# Altium integrated library Analog Devices Switches and Multiplexers Analog Switches.IntLib: 575 symbols (part 1 of 23)
Pins are listed as number, name and electrical type; pins without a type are passive.

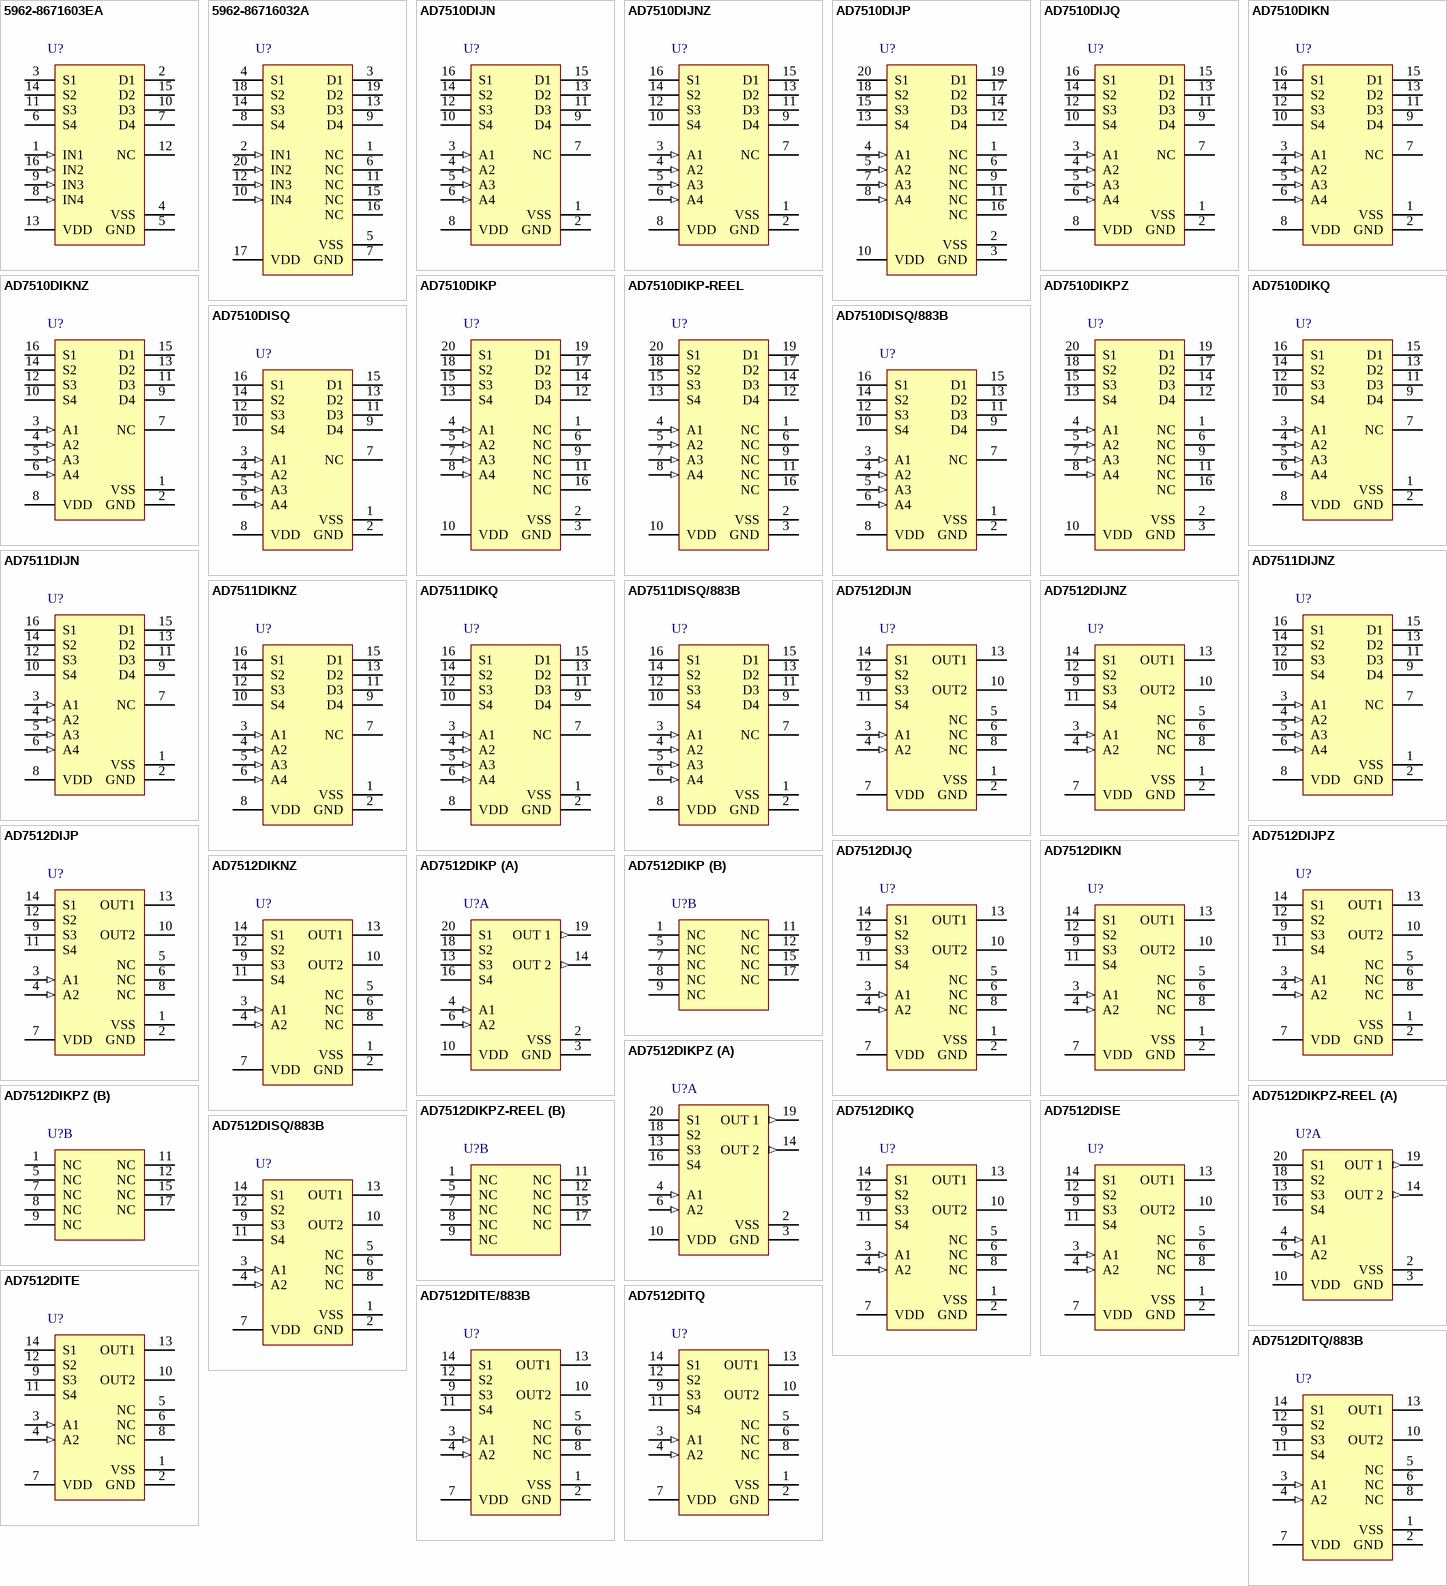
[diagram p0: symbols 5962-8671603EA to AD7512DITQ/883B]

## 5962-8671603EA
designator U?
LC2MOS High Speed, Quad SPST Switches, 30 Ohm Ron, 20-pin LCC (E-20A), Tube; Manufacturer: Analog Devices; PartNumber: 5962-8671603EA; # Sw Functions: 4; Max Neg Supply: -16.5V; Max Pos Supply: +16.5V; Ron (ohms): 30, 65; DatasheetVersion: Rev. B; PackageVersion: Aug-05; PackageReference: Q-16; PackageDescription: 16-Pin Ceramic Dual In-Line Package, Row spacing 7.62 mm, Pitch 2.54 mm; Supplier 1: Mouser; Supplier Part Number 1: N/A; Configuration: SPST; Packing: Tube; Mounting Technology: Through Hole; ComponentLink1Description: Manufacturer URL; ComponentLink1URL: http://www.analog.com/en/index.html; ComponentLink2Description: Datasheet; ComponentLink2URL: http://www.analog.com/static/imported-files/data_sheets/ADG201HS.pdf; ComponentLink3Description: Package Specification; ComponentLink3URL: http://www.analog.com/static/imported-files/packages/54083157002221Q_16.pdf
footprint ADI-Q-16 (DIP, 16-Leads, Body 21.34x6.73mm, Pitch 2.54mm)
pins: 1 IN1 (in), 2 D1, 3 S1, 4 VSS (power), 5 GND (power), 6 S4, 7 D4, 8 IN4 (in), 9 IN3 (in), 10 D3, 11 S3, 12 NC, 13 VDD (power), 14 S2, 15 D2, 16 IN2 (in)

## 5962-86716032A
designator U?
LC2MOS High Speed, Quad SPST Switches, 30 Ohm Ron, 16-pin DIP (Q-16), Tube; Manufacturer: Analog Devices; PartNumber: 5962-86716032A; # Sw Functions: 4; Max Neg Supply: -16.5V; Max Pos Supply: +16.5V; Ron (ohms): 30, 65; DatasheetVersion: Rev. B; PackageVersion: Rev. C, 08/2002; PackageReference: E-20A; PackageDescription: 20-Pin Terminal Ceramic Leadless Chip Carrier, Body 8.89 x 8.89 mm, Pitch 1.27 mm; Supplier 1: Mouser; Supplier Part Number 1: N/A; Configuration: SPST; Packing: Tube; Mounting Technology: Surface Mount; ComponentLink1Description: Manufacturer URL; ComponentLink1URL: http://www.analog.com/en/index.html; ComponentLink2Description: Datasheet; ComponentLink2URL: http://www.analog.com/static/imported-files/data_sheets/ADG201HS.pdf; ComponentLink3Description: Package Specification; ComponentLink3URL: http://www.analog.com/static/imported-files/data_sheets/AD827.pdf
footprint ADI-E-20A_N (LCC, 20-Leads, Body 8.9x8.9mm, Pitch 1.27mm, IPC Medium Density)
footprint ADI-E-20A_L (LCC, 20-Leads, Body 8.9x8.9mm, Pitch 1.27mm, IPC High Density)
footprint ADI-E-20A_M (LCC, 20-Leads, Body 8.9x8.9mm, Pitch 1.27mm, IPC Low Density)
pins: 1 NC, 2 IN1 (in), 3 D1, 4 S1, 5 VSS (power), 6 NC, 7 GND (power), 8 S4, 9 D4, 10 IN4 (in), 11 NC, 12 IN3 (in), 13 D3, 14 S3, 15 NC, 16 NC, 17 VDD (power), 18 S2, 19 D2, 20 IN2 (in)

## AD7510DIJN
designator U?
Dual (+/-15 V), DI CMOS Protected Analog Switches, 75 Ohm Ron, 16-pin DIP (N-16), Tube; Manufacturer: Analog Devices; PartNumber: AD7510DIJN; # Sw Functions: 4; Configuration: SPST; DatasheetVersion: Rev. A; PackageVersion: 070706-A, 07/2006; PackageReference: N-16; PackageDescription: 16-Pin Plastic Dual In-Line Package, Row spacing 7.62 mm, Pitch 2.54 mm; Supplier 1: Mouser; Supplier Part Number 1: 584-AD7510DIJN; Packing: Tube; Mounting Technology: Through Hole; Code_JEDEC: MS-001; ComponentLink1Description: Manufacturer URL; ComponentLink1URL: http://www.analog.com/en/index.html; ComponentLink2Description: Datasheet; ComponentLink2URL: http://www.analog.com/static/imported-files/data_sheets/AD7510DI_7511DI_7512DI.pdf; ComponentLink3Description: Package Specification; ComponentLink3URL: http://www.analog.com/static/imported-files/packages/44768431550332N_16.pdf
footprint ADI-N-16 (DIP, 16-Leads, Body 20.07x6.6mm, Pitch 2.54mm)
pins: 1 VSS (power), 2 GND (power), 3 A1 (in), 4 A2 (in), 5 A3 (in), 6 A4 (in), 7 NC, 8 VDD (power), 9 D4, 10 S4, 11 D3, 12 S3, 13 D2, 14 S2, 15 D1, 16 S1

## AD7510DIJNZ
designator U?
Dual (+/-15 V), DI CMOS Protected Analog Switches, 75 Ohm Ron, 16-pin DIP (N-16), Tube; Manufacturer: Analog Devices; PartNumber: AD7510DIJNZ; # Sw Functions: 4; Configuration: SPST; DatasheetVersion: Rev. A; PackageVersion: 070706-A, 07/2006; PackageReference: N-16; PackageDescription: 16-Pin Plastic Dual In-Line Package, Row spacing 7.62 mm, Pitch 2.54 mm; Supplier 1: Farnell; Supplier Part Number 1: 1079333; Supplier 2: Newark; Supplier Part Number 2: 59K4964; Supplier 3: Mouser; Supplier Part Number 3: 584-AD7510DIJNZ; Packing: Tube; Mounting Technology: Through Hole; Code_JEDEC: MS-001; ComponentLink1Description: Manufacturer URL; ComponentLink1URL: http://www.analog.com/en/index.html; ComponentLink2Description: Datasheet; ComponentLink2URL: http://www.analog.com/static/imported-files/data_sheets/AD7510DI_7511DI_7512DI.pdf; ComponentLink3Description: Package Specification; ComponentLink3URL: http://www.analog.com/static/imported-files/packages/44768431550332N_16.pdf
footprint ADI-N-16 (DIP, 16-Leads, Body 20.07x6.6mm, Pitch 2.54mm)
pins: 1 VSS (power), 2 GND (power), 3 A1 (in), 4 A2 (in), 5 A3 (in), 6 A4 (in), 7 NC, 8 VDD (power), 9 D4, 10 S4, 11 D3, 12 S3, 13 D2, 14 S2, 15 D1, 16 S1

## AD7510DIJP
designator U?
Dual (+/-15 V), DI CMOS Protected Analog Switches, 75 Ohm Ron, 20-pin PLCC (P-20A), Tube; Manufacturer: Analog Devices; PartNumber: AD7510DIJP; # Sw Functions: 4; Configuration: SPST; DatasheetVersion: Rev. A; PackageVersion: Nov-02; PackageReference: P-20A; PackageDescription: 20-Pin Plastic Leaded Chip Carrier, Body 8.97 x 8.97 mm, Pitch 1.27 mm; Supplier 1: Mouser; Supplier Part Number 1: 584-AD7510DIJP; Packing: Tube; Mounting Technology: Surface Mount; Code_JEDEC: MO-047AA; ComponentLink1Description: Manufacturer URL; ComponentLink1URL: http://www.analog.com/en/index.html; ComponentLink2Description: Datasheet; ComponentLink2URL: http://www.analog.com/static/imported-files/data_sheets/AD7510DI_7511DI_7512DI.pdf; ComponentLink3Description: Package Specification; ComponentLink3URL: http://www.analog.com/static/imported-files/packages/3121431516544404277643669223804694P20A.pdf
footprint ADI-P-20A_N (PLCC, 20-Leads, Body 8.965x8.965mm, Pitch 1.27mm, IPC Medium Density)
footprint ADI-P-20A_L (PLCC, 20-Leads, Body 8.965x8.965mm, Pitch 1.27mm, IPC High Density)
footprint ADI-P-20A_M (PLCC, 20-Leads, Body 8.965x8.965mm, Pitch 1.27mm, IPC Low Density)
pins: 1 NC, 2 VSS (power), 3 GND (power), 4 A1 (in), 5 A2 (in), 6 NC, 7 A3 (in), 8 A4 (in), 9 NC, 10 VDD (power), 11 NC, 12 D4, 13 S4, 14 D3, 15 S3, 16 NC, 17 D2, 18 S2, 19 D1, 20 S1

## AD7510DIJQ
designator U?
Dual (+/-15 V), DI CMOS Protected Analog Switches, 75 Ohm Ron, 16-pin DIP (Q-16), Tube; Manufacturer: Analog Devices; PartNumber: AD7510DIJQ; # Sw Functions: 4; Configuration: SPST; DatasheetVersion: Rev. A; PackageVersion: Aug-05; PackageReference: Q-16; PackageDescription: 16-Pin Ceramic Dual In-Line Package, Row spacing 7.62 mm, Pitch 2.54 mm; Supplier 1: Digi-Key; Supplier Part Number 1: AD7510DIJQ-ND; Packing: Tube; Mounting Technology: Through Hole; ComponentLink1Description: Manufacturer URL; ComponentLink1URL: http://www.analog.com/en/index.html; ComponentLink2Description: Datasheet; ComponentLink2URL: http://www.analog.com/static/imported-files/data_sheets/AD7510DI_7511DI_7512DI.pdf; ComponentLink3Description: Package Specification; ComponentLink3URL: http://www.analog.com/static/imported-files/packages/54083157002221Q_16.pdf
footprint ADI-Q-16 (DIP, 16-Leads, Body 21.34x6.73mm, Pitch 2.54mm)
pins: 1 VSS (power) "Most negative voltage supply", 2 GND (power), 3 A1 (in), 4 A2 (in), 5 A3 (in), 6 A4 (in), 7 NC, 8 VDD (power) "Most positive voltage supply", 9 D4, 10 S4, 11 D3, 12 S3, 13 D2, 14 S2, 15 D1, 16 S1

## AD7510DIKN
designator U?
Dual (+/-15 V), DI CMOS Protected Analog Switches, 75 Ohm Ron, 16-pin DIP (N-16), Tube; Manufacturer: Analog Devices; PartNumber: AD7510DIKN; # Sw Functions: 4; Configuration: SPST; DatasheetVersion: Rev. A; PackageVersion: 070706-A, 07/2006; PackageReference: N-16; PackageDescription: 16-Pin Plastic Dual In-Line Package, Row spacing 7.62 mm, Pitch 2.54 mm; Supplier 1: Digi-Key; Supplier Part Number 1: AD7510DIKN-ND; Packing: Tube; Mounting Technology: Through Hole; Code_JEDEC: MS-001; ComponentLink1Description: Manufacturer URL; ComponentLink1URL: http://www.analog.com/en/index.html; ComponentLink2Description: Datasheet; ComponentLink2URL: http://www.analog.com/static/imported-files/data_sheets/AD7510DI_7511DI_7512DI.pdf; ComponentLink3Description: Package Specification; ComponentLink3URL: http://www.analog.com/static/imported-files/packages/44768431550332N_16.pdf
footprint ADI-N-16 (DIP, 16-Leads, Body 20.07x6.6mm, Pitch 2.54mm)
pins: 1 VSS (power), 2 GND (power), 3 A1 (in), 4 A2 (in), 5 A3 (in), 6 A4 (in), 7 NC, 8 VDD (power), 9 D4, 10 S4, 11 D3, 12 S3, 13 D2, 14 S2, 15 D1, 16 S1

## AD7510DIKNZ
designator U?
Dual (+/-15 V), DI CMOS Protected Analog Switches, 75 Ohm Ron, 16-pin DIP (N-16), Tube; Manufacturer: Analog Devices; PartNumber: AD7510DIKNZ; # Sw Functions: 4; Configuration: SPST; DatasheetVersion: Rev. A; PackageVersion: 070706-A, 07/2006; PackageReference: N-16; PackageDescription: 16-Pin Plastic Dual In-Line Package, Row spacing 7.62 mm, Pitch 2.54 mm; Supplier 1: Digi-Key; Supplier Part Number 1: AD7510DIKNZ-ND; Supplier 2: Mouser; Supplier Part Number 2: 584-AD7510DIKNZ; Packing: Tube; Mounting Technology: Through Hole; Code_JEDEC: MS-001; ComponentLink1Description: Manufacturer URL; ComponentLink1URL: http://www.analog.com/en/index.html; ComponentLink2Description: Datasheet; ComponentLink2URL: http://www.analog.com/static/imported-files/data_sheets/AD7510DI_7511DI_7512DI.pdf; ComponentLink3Description: Package Specification; ComponentLink3URL: http://www.analog.com/static/imported-files/packages/44768431550332N_16.pdf
footprint ADI-N-16 (DIP, 16-Leads, Body 20.07x6.6mm, Pitch 2.54mm)
pins: 1 VSS (power), 2 GND (power), 3 A1 (in), 4 A2 (in), 5 A3 (in), 6 A4 (in), 7 NC, 8 VDD (power), 9 D4, 10 S4, 11 D3, 12 S3, 13 D2, 14 S2, 15 D1, 16 S1

## AD7510DIKP
designator U?
Dual (+/-15 V), DI CMOS Protected Analog Switches, 75 Ohm Ron, 20-pin PLCC (P-20A), Tube; Manufacturer: Analog Devices; PartNumber: AD7510DIKP; # Sw Functions: 4; Configuration: SPST; DatasheetVersion: Rev. A; PackageVersion: Nov-02; PackageReference: P-20A; PackageDescription: 20-Pin Plastic Leaded Chip Carrier, Body 8.97 x 8.97 mm, Pitch 1.27 mm; Supplier 1: Newark; Supplier Part Number 1: 66F5845; Supplier 2: Mouser; Supplier Part Number 2: 584-AD7510DIKP; Packing: Tube; Mounting Technology: Surface Mount; Code_JEDEC: MO-047AA; ComponentLink1Description: Manufacturer URL; ComponentLink1URL: http://www.analog.com/en/index.html; ComponentLink2Description: Datasheet; ComponentLink2URL: http://www.analog.com/static/imported-files/data_sheets/AD7510DI_7511DI_7512DI.pdf; ComponentLink3Description: Package Specification; ComponentLink3URL: http://www.analog.com/static/imported-files/packages/3121431516544404277643669223804694P20A.pdf
footprint ADI-P-20A_N (PLCC, 20-Leads, Body 8.965x8.965mm, Pitch 1.27mm, IPC Medium Density)
footprint ADI-P-20A_L (PLCC, 20-Leads, Body 8.965x8.965mm, Pitch 1.27mm, IPC High Density)
footprint ADI-P-20A_M (PLCC, 20-Leads, Body 8.965x8.965mm, Pitch 1.27mm, IPC Low Density)
pins: 1 NC, 2 VSS (power), 3 GND (power), 4 A1 (in), 5 A2 (in), 6 NC, 7 A3 (in), 8 A4 (in), 9 NC, 10 VDD (power), 11 NC, 12 D4, 13 S4, 14 D3, 15 S3, 16 NC, 17 D2, 18 S2, 19 D1, 20 S1

## AD7510DIKP-REEL
designator U?
Dual (+/-15 V), DI CMOS Protected Analog Switches, 75 Ohm Ron, 20-pin PLCC (P-20A), Reel; Manufacturer: Analog Devices; PartNumber: AD7510DIKP-REEL; # Sw Functions: 4; Configuration: SPST; DatasheetVersion: Rev. A; PackageVersion: Nov-02; PackageReference: P-20A; PackageDescription: 20-Pin Plastic Leaded Chip Carrier, Body 8.97 x 8.97 mm, Pitch 1.27 mm; Supplier 1: Mouser; Supplier Part Number 1: N/A; Packing: Reel; Mounting Technology: Surface Mount; Code_JEDEC: MO-047AA; ComponentLink1Description: Manufacturer URL; ComponentLink1URL: http://www.analog.com/en/index.html; ComponentLink2Description: Datasheet; ComponentLink2URL: http://www.analog.com/static/imported-files/data_sheets/AD7510DI_7511DI_7512DI.pdf; ComponentLink3Description: Package Specification; ComponentLink3URL: http://www.analog.com/static/imported-files/packages/3121431516544404277643669223804694P20A.pdf
footprint ADI-P-20A_N (PLCC, 20-Leads, Body 8.965x8.965mm, Pitch 1.27mm, IPC Medium Density)
footprint ADI-P-20A_L (PLCC, 20-Leads, Body 8.965x8.965mm, Pitch 1.27mm, IPC High Density)
footprint ADI-P-20A_M (PLCC, 20-Leads, Body 8.965x8.965mm, Pitch 1.27mm, IPC Low Density)
pins: 1 NC, 2 VSS (power), 3 GND (power), 4 A1 (in), 5 A2 (in), 6 NC, 7 A3 (in), 8 A4 (in), 9 NC, 10 VDD (power), 11 NC, 12 D4, 13 S4, 14 D3, 15 S3, 16 NC, 17 D2, 18 S2, 19 D1, 20 S1

## AD7510DIKPZ
designator U?
Dual (+/-15 V), DI CMOS Protected Analog Switches, 75 Ohm Ron, 20-pin PLCC (P-20A), Tube; Manufacturer: Analog Devices; PartNumber: AD7510DIKPZ; # Sw Functions: 4; Configuration: SPST; DatasheetVersion: Rev. A; PackageVersion: Nov-02; PackageReference: P-20A; PackageDescription: 20-Pin Plastic Leaded Chip Carrier, Body 8.97 x 8.97 mm, Pitch 1.27 mm; Supplier 1: Newark; Supplier Part Number 1: 12M8824; Supplier 2: Mouser; Supplier Part Number 2: 584-AD7510DIKPZ; Packing: Tube; Mounting Technology: Surface Mount; Code_JEDEC: MO-047AA; ComponentLink1Description: Manufacturer URL; ComponentLink1URL: http://www.analog.com/en/index.html; ComponentLink2Description: Datasheet; ComponentLink2URL: http://www.analog.com/static/imported-files/data_sheets/AD7510DI_7511DI_7512DI.pdf; ComponentLink3Description: Package Specification; ComponentLink3URL: http://www.analog.com/static/imported-files/packages/3121431516544404277643669223804694P20A.pdf
footprint ADI-P-20A_N (PLCC, 20-Leads, Body 8.965x8.965mm, Pitch 1.27mm, IPC Medium Density)
footprint ADI-P-20A_L (PLCC, 20-Leads, Body 8.965x8.965mm, Pitch 1.27mm, IPC High Density)
footprint ADI-P-20A_M (PLCC, 20-Leads, Body 8.965x8.965mm, Pitch 1.27mm, IPC Low Density)
pins: 1 NC, 2 VSS (power), 3 GND (power), 4 A1 (in), 5 A2 (in), 6 NC, 7 A3 (in), 8 A4 (in), 9 NC, 10 VDD (power), 11 NC, 12 D4, 13 S4, 14 D3, 15 S3, 16 NC, 17 D2, 18 S2, 19 D1, 20 S1

## AD7510DIKQ
designator U?
Dual (+/-15 V), DI CMOS Protected Analog Switches, 75 Ohm Ron, 16-pin DIP (Q-16), Tube; Manufacturer: Analog Devices; PartNumber: AD7510DIKQ; # Sw Functions: 4; Configuration: SPST; DatasheetVersion: Rev. A; PackageVersion: Aug-05; PackageReference: Q-16; PackageDescription: 16-Pin Ceramic Dual In-Line Package, Row spacing 7.62 mm, Pitch 2.54 mm; Supplier 1: Newark; Supplier Part Number 1: 05F7368; Supplier 2: Mouser; Supplier Part Number 2: 584-AD7510DIKQ; Packing: Tube; Mounting Technology: Through Hole; ComponentLink1Description: Manufacturer URL; ComponentLink1URL: http://www.analog.com/en/index.html; ComponentLink2Description: Datasheet; ComponentLink2URL: http://www.analog.com/static/imported-files/data_sheets/AD7510DI_7511DI_7512DI.pdf; ComponentLink3Description: Package Specification; ComponentLink3URL: http://www.analog.com/static/imported-files/packages/54083157002221Q_16.pdf
footprint ADI-Q-16 (DIP, 16-Leads, Body 21.34x6.73mm, Pitch 2.54mm)
pins: 1 VSS (power) "Most negative voltage supply", 2 GND (power), 3 A1 (in), 4 A2 (in), 5 A3 (in), 6 A4 (in), 7 NC, 8 VDD (power) "Most positive voltage supply", 9 D4, 10 S4, 11 D3, 12 S3, 13 D2, 14 S2, 15 D1, 16 S1

## AD7510DISQ
designator U?
Dual (+/-15 V), DI CMOS Protected Analog Switches, 75 Ohm Ron, 16-pin DIP (Q-16), Tube; Manufacturer: Analog Devices; PartNumber: AD7510DISQ; # Sw Functions: 4; Configuration: SPST; DatasheetVersion: Rev. A; PackageVersion: Aug-05; PackageReference: Q-16; PackageDescription: 16-Pin Ceramic Dual In-Line Package, Row spacing 7.62 mm, Pitch 2.54 mm; Supplier 1: Newark; Supplier Part Number 1: 09B5745; Supplier 2: Mouser; Supplier Part Number 2: 584-AD7510DISQ; Packing: Tube; Mounting Technology: Through Hole; ComponentLink1Description: Manufacturer URL; ComponentLink1URL: http://www.analog.com/en/index.html; ComponentLink2Description: Datasheet; ComponentLink2URL: http://www.analog.com/static/imported-files/data_sheets/AD7510DI_7511DI_7512DI.pdf; ComponentLink3Description: Package Specification; ComponentLink3URL: http://www.analog.com/static/imported-files/packages/54083157002221Q_16.pdf
footprint ADI-Q-16 (DIP, 16-Leads, Body 21.34x6.73mm, Pitch 2.54mm)
pins: 1 VSS (power) "Most negative voltage supply", 2 GND (power), 3 A1 (in), 4 A2 (in), 5 A3 (in), 6 A4 (in), 7 NC, 8 VDD (power) "Most positive voltage supply", 9 D4, 10 S4, 11 D3, 12 S3, 13 D2, 14 S2, 15 D1, 16 S1

## AD7510DISQ/883B
designator U?
Dual (+/-15 V), DI CMOS Protected Analog Switches, 75 Ohm Ron, 16-pin DIP (Q-16), Tube; Manufacturer: Analog Devices; PartNumber: AD7510DISQ/883B; # Sw Functions: 4; Configuration: SPST; DatasheetVersion: Rev. A; PackageVersion: Aug-05; PackageReference: Q-16; PackageDescription: 16-Pin Ceramic Dual In-Line Package, Row spacing 7.62 mm, Pitch 2.54 mm; Supplier 1: Mouser; Supplier Part Number 1: 584-AD7510DISQ883B; Packing: Tube; Mounting Technology: Through Hole; ComponentLink1Description: Manufacturer URL; ComponentLink1URL: http://www.analog.com/en/index.html; ComponentLink2Description: Datasheet; ComponentLink2URL: http://www.analog.com/static/imported-files/data_sheets/AD7510DI_7511DI_7512DI.pdf; ComponentLink3Description: Package Specification; ComponentLink3URL: http://www.analog.com/static/imported-files/packages/54083157002221Q_16.pdf
footprint ADI-Q-16 (DIP, 16-Leads, Body 21.34x6.73mm, Pitch 2.54mm)
pins: 1 VSS (power) "Most negative voltage supply", 2 GND (power), 3 A1 (in), 4 A2 (in), 5 A3 (in), 6 A4 (in), 7 NC, 8 VDD (power) "Most positive voltage supply", 9 D4, 10 S4, 11 D3, 12 S3, 13 D2, 14 S2, 15 D1, 16 S1

## AD7511DIJN
designator U?
Dual (+/-15 V), DI CMOS Protected Analog Switches, 75 Ohm Ron, 16-pin DIP (N-16), Tube; Manufacturer: Analog Devices; PartNumber: AD7511DIJN; # Sw Functions: 4; Configuration: SPST; DatasheetVersion: Rev. A; PackageVersion: 070706-A, 07/2006; PackageReference: N-16; PackageDescription: 16-Pin Plastic Dual In-Line Package, Row spacing 7.62 mm, Pitch 2.54 mm; Supplier 1: Digi-Key; Supplier Part Number 1: AD7511DIJN-ND; Supplier 2: Mouser; Supplier Part Number 2: 584-AD7511DIJN; Packing: Tube; Mounting Technology: Through Hole; Code_JEDEC: MS-001; ComponentLink1Description: Manufacturer URL; ComponentLink1URL: http://www.analog.com/en/index.html; ComponentLink2Description: Datasheet; ComponentLink2URL: http://www.analog.com/static/imported-files/data_sheets/AD7510DI_7511DI_7512DI.pdf; ComponentLink3Description: Package Specification; ComponentLink3URL: http://www.analog.com/static/imported-files/packages/44768431550332N_16.pdf
footprint ADI-N-16 (DIP, 16-Leads, Body 20.07x6.6mm, Pitch 2.54mm)
pins: 1 VSS (power) "Most negative voltage supply", 2 GND (power), 3 A1 (in), 4 A2 (in), 5 A3 (in), 6 A4 (in), 7 NC, 8 VDD (power) "Most positive voltage supply", 9 D4, 10 S4, 11 D3, 12 S3, 13 D2, 14 S2, 15 D1, 16 S1

## AD7511DIJNZ
designator U?
Dual (+/-15 V), DI CMOS Protected Analog Switches, 75 Ohm Ron, 16-pin DIP (N-16), Tube; Manufacturer: Analog Devices; PartNumber: AD7511DIJNZ; # Sw Functions: 4; Configuration: SPST; DatasheetVersion: Rev. A; PackageVersion: 070706-A, 07/2006; PackageReference: N-16; PackageDescription: 16-Pin Plastic Dual In-Line Package, Row spacing 7.62 mm, Pitch 2.54 mm; Supplier 1: Digi-Key; Supplier Part Number 1: AD7511DIJNZ-ND; Supplier 2: Farnell; Supplier Part Number 2: 1814348; Supplier 3: Newark; Supplier Part Number 3: 74R7497; Supplier 4: Mouser; Supplier Part Number 4: 584-AD7511DIJNZ; Packing: Tube; Mounting Technology: Through Hole; Code_JEDEC: MS-001; ComponentLink1Description: Manufacturer URL; ComponentLink1URL: http://www.analog.com/en/index.html; ComponentLink2Description: Datasheet; ComponentLink2URL: http://www.analog.com/static/imported-files/data_sheets/AD7510DI_7511DI_7512DI.pdf; ComponentLink3Description: Package Specification; ComponentLink3URL: http://www.analog.com/static/imported-files/packages/44768431550332N_16.pdf
footprint ADI-N-16 (DIP, 16-Leads, Body 20.07x6.6mm, Pitch 2.54mm)
pins: 1 VSS (power) "Most negative voltage supply", 2 GND (power), 3 A1 (in), 4 A2 (in), 5 A3 (in), 6 A4 (in), 7 NC, 8 VDD (power) "Most positive voltage supply", 9 D4, 10 S4, 11 D3, 12 S3, 13 D2, 14 S2, 15 D1, 16 S1

## AD7511DIKNZ
designator U?
Dual (+/-15 V), DI CMOS Protected Analog Switches, 75 Ohm Ron, 16-pin DIP (N-16), Tube; Manufacturer: Analog Devices; PartNumber: AD7511DIKNZ; # Sw Functions: 4; Configuration: SPST; DatasheetVersion: Rev. A; PackageVersion: 070706-A, 07/2006; PackageReference: N-16; PackageDescription: 16-Pin Plastic Dual In-Line Package, Row spacing 7.62 mm, Pitch 2.54 mm; Supplier 1: Digi-Key; Supplier Part Number 1: AD7511DIKNZ-ND; Supplier 2: Farnell; Supplier Part Number 2: 1529990; Supplier 3: Newark; Supplier Part Number 3: 12M8826; Supplier 4: Mouser; Supplier Part Number 4: 584-AD7511DIKNZ; Packing: Tube; Mounting Technology: Through Hole; Code_JEDEC: MS-001; ComponentLink1Description: Manufacturer URL; ComponentLink1URL: http://www.analog.com/en/index.html; ComponentLink2Description: Datasheet; ComponentLink2URL: http://www.analog.com/static/imported-files/data_sheets/AD7510DI_7511DI_7512DI.pdf; ComponentLink3Description: Package Specification; ComponentLink3URL: http://www.analog.com/static/imported-files/packages/44768431550332N_16.pdf
footprint ADI-N-16 (DIP, 16-Leads, Body 20.07x6.6mm, Pitch 2.54mm)
pins: 1 VSS (power) "Most negative voltage supply", 2 GND (power), 3 A1 (in), 4 A2 (in), 5 A3 (in), 6 A4 (in), 7 NC, 8 VDD (power) "Most positive voltage supply", 9 D4, 10 S4, 11 D3, 12 S3, 13 D2, 14 S2, 15 D1, 16 S1

## AD7511DIKQ
designator U?
Dual (+/-15 V), DI CMOS Protected Analog Switches, 75 Ohm Ron, 16-pin DIP (Q-16), Tube; Manufacturer: Analog Devices; PartNumber: AD7511DIKQ; # Sw Functions: 4; Configuration: SPST; DatasheetVersion: Rev. A; PackageVersion: Aug-05; PackageReference: Q-16; PackageDescription: 16-Pin Ceramic Dual In-Line Package, Row spacing 7.62 mm, Pitch 2.54 mm; Supplier 1: Digi-Key; Supplier Part Number 1: AD7511DIKQ-ND; Supplier 2: Mouser; Supplier Part Number 2: 584-AD7511DIKQ; Packing: Tube; Mounting Technology: Through Hole; ComponentLink1Description: Manufacturer URL; ComponentLink1URL: http://www.analog.com/en/index.html; ComponentLink2Description: Datasheet; ComponentLink2URL: http://www.analog.com/static/imported-files/data_sheets/AD7510DI_7511DI_7512DI.pdf; ComponentLink3Description: Package Specification; ComponentLink3URL: http://www.analog.com/static/imported-files/packages/54083157002221Q_16.pdf
footprint ADI-Q-16 (DIP, 16-Leads, Body 21.34x6.73mm, Pitch 2.54mm)
pins: 1 VSS (power), 2 GND (power), 3 A1 (in), 4 A2 (in), 5 A3 (in), 6 A4 (in), 7 NC, 8 VDD (power), 9 D4, 10 S4, 11 D3, 12 S3, 13 D2, 14 S2, 15 D1, 16 S1

## AD7511DISQ/883B
designator U?
Dual (+/-15 V), DI CMOS Protected Analog Switches, 75 Ohm Ron, 16-pin DIP (Q-16), Tube; Manufacturer: Analog Devices; PartNumber: AD7511DISQ/883B; # Sw Functions: 4; Configuration: SPST; DatasheetVersion: Rev. A; PackageVersion: Aug-05; PackageReference: Q-16; PackageDescription: 16-Pin Ceramic Dual In-Line Package, Row spacing 7.62 mm, Pitch 2.54 mm; Supplier 1: Mouser; Supplier Part Number 1: 584-AD7511DISQ883B; Packing: Tube; Mounting Technology: Through Hole; ComponentLink1Description: Manufacturer URL; ComponentLink1URL: http://www.analog.com/en/index.html; ComponentLink2Description: Datasheet; ComponentLink2URL: http://www.analog.com/static/imported-files/data_sheets/AD7510DI_7511DI_7512DI.pdf; ComponentLink3Description: Package Specification; ComponentLink3URL: http://www.analog.com/static/imported-files/packages/54083157002221Q_16.pdf
footprint ADI-Q-16 (DIP, 16-Leads, Body 21.34x6.73mm, Pitch 2.54mm)
pins: 1 VSS (power), 2 GND (power), 3 A1 (in), 4 A2 (in), 5 A3 (in), 6 A4 (in), 7 NC, 8 VDD (power), 9 D4, 10 S4, 11 D3, 12 S3, 13 D2, 14 S2, 15 D1, 16 S1

## AD7512DIJN
designator U?
Dual (+/-15 V), DI CMOS Protected Analog Switches, 75 Ohm Ron, 14-pin DIP (N-14), Tube; Manufacturer: Analog Devices; PartNumber: AD7512DIJN; # Sw Functions: 2; Configuration: SPDT; DatasheetVersion: Rev. A; PackageVersion: 070606-A, 07/2006; PackageReference: N-14; PackageDescription: 14-Pin Plastic Dual In-Line Package, Row spacing 7.62 mm, Pitch 2.54 mm; Supplier 1: Mouser; Supplier Part Number 1: 584-AD7512DIJN; Packing: Tube; Mounting Technology: Through Hole; Code_JEDEC: MS-001; ComponentLink1Description: Manufacturer URL; ComponentLink1URL: http://www.analog.com/en/index.html; ComponentLink2Description: Datasheet; ComponentLink2URL: http://www.analog.com/static/imported-files/data_sheets/AD7510DI_7511DI_7512DI.pdf; ComponentLink3Description: Package Specification; ComponentLink3URL: http://www.analog.com/static/imported-files/packages/N_14.pdf
footprint ADI-N-14 (DIP, 14-Leads, Body 19.18x6.605mm, Pitch 2.54mm)
pins: 1 VSS (power), 2 GND (power), 3 A1 (in), 4 A2 (in), 5 NC, 6 NC, 7 VDD (power), 8 NC, 9 S3, 10 OUT2, 11 S4, 12 S2, 13 OUT1, 14 S1

## AD7512DIJNZ
designator U?
Dual (+/-15 V), DI CMOS Protected Analog Switches, 75 Ohm Ron, 14-pin DIP (N-14), Tube; Manufacturer: Analog Devices; PartNumber: AD7512DIJNZ; # Sw Functions: 2; Configuration: SPDT; DatasheetVersion: Rev. A; PackageVersion: 070606-A, 07/2006; PackageReference: N-14; PackageDescription: 14-Pin Plastic Dual In-Line Package, Row spacing 7.62 mm, Pitch 2.54 mm; Supplier 1: Farnell; Supplier Part Number 1: 1079334; Supplier 2: Mouser; Supplier Part Number 2: 584-AD7512DIJNZ; Packing: Tube; Mounting Technology: Through Hole; Code_JEDEC: MS-001; ComponentLink1Description: Manufacturer URL; ComponentLink1URL: http://www.analog.com/en/index.html; ComponentLink2Description: Datasheet; ComponentLink2URL: http://www.analog.com/static/imported-files/data_sheets/AD7510DI_7511DI_7512DI.pdf; ComponentLink3Description: Package Specification; ComponentLink3URL: http://www.analog.com/static/imported-files/packages/N_14.pdf
footprint ADI-N-14 (DIP, 14-Leads, Body 19.18x6.605mm, Pitch 2.54mm)
pins: 1 VSS (power), 2 GND (power), 3 A1 (in), 4 A2 (in), 5 NC, 6 NC, 7 VDD (power), 8 NC, 9 S3, 10 OUT2, 11 S4, 12 S2, 13 OUT1, 14 S1

## AD7512DIJP
designator U?
Dual (+/-15 V), DI CMOS Protected Analog Switches, 75 Ohm Ron, 20-pin PLCC (P-20A), Tube; Manufacturer: Analog Devices; PartNumber: AD7512DIJP; # Sw Functions: 2; Configuration: SPDT; DatasheetVersion: Rev. A; PackageVersion: Nov-02; PackageReference: P-20A; PackageDescription: 20-Pin Plastic Leaded Chip Carrier, Body 8.97 x 8.97 mm, Pitch 1.27 mm; Supplier 1: Digi-Key; Supplier Part Number 1: AD7512DIJP-ND; Packing: Tube; Mounting Technology: Surface Mount; Code_JEDEC: MO-047AA; ComponentLink1Description: Manufacturer URL; ComponentLink1URL: http://www.analog.com/en/index.html; ComponentLink2Description: Datasheet; ComponentLink2URL: http://www.analog.com/static/imported-files/data_sheets/AD7510DI_7511DI_7512DI.pdf; ComponentLink3Description: Package Specification; ComponentLink3URL: http://www.analog.com/static/imported-files/packages/3121431516544404277643669223804694P20A.pdf
footprint ADI-P-20A_N (PLCC, 20-Leads, Body 8.965x8.965mm, Pitch 1.27mm, IPC Medium Density)
footprint ADI-P-20A_L (PLCC, 20-Leads, Body 8.965x8.965mm, Pitch 1.27mm, IPC High Density)
footprint ADI-P-20A_M (PLCC, 20-Leads, Body 8.965x8.965mm, Pitch 1.27mm, IPC Low Density)
pins: 1 VSS (power), 2 GND (power), 3 A1 (in), 4 A2 (in), 5 NC, 6 NC, 7 VDD (power), 8 NC, 9 S3, 10 OUT2, 11 S4, 12 S2, 13 OUT1, 14 S1

## AD7512DIJPZ
designator U?
Dual (+/-15 V), DI CMOS Protected Analog Switches, 75 Ohm Ron, 20-pin PLCC (P-20A), Tube; Manufacturer: Analog Devices; PartNumber: AD7512DIJPZ; # Sw Functions: 2; Configuration: SPDT; DatasheetVersion: Rev. A; PackageVersion: Nov-02; PackageReference: P-20A; PackageDescription: 20-Pin Plastic Leaded Chip Carrier, Body 8.97 x 8.97 mm, Pitch 1.27 mm; Supplier 1: Mouser; Supplier Part Number 1: 584-AD7512DIJPZ; Packing: Tube; Mounting Technology: Surface Mount; Code_JEDEC: MO-047AA; ComponentLink1Description: Manufacturer URL; ComponentLink1URL: http://www.analog.com/en/index.html; ComponentLink2Description: Datasheet; ComponentLink2URL: http://www.analog.com/static/imported-files/data_sheets/AD7510DI_7511DI_7512DI.pdf; ComponentLink3Description: Package Specification; ComponentLink3URL: http://www.analog.com/static/imported-files/packages/3121431516544404277643669223804694P20A.pdf
footprint ADI-P-20A_N (PLCC, 20-Leads, Body 8.965x8.965mm, Pitch 1.27mm, IPC Medium Density)
footprint ADI-P-20A_L (PLCC, 20-Leads, Body 8.965x8.965mm, Pitch 1.27mm, IPC High Density)
footprint ADI-P-20A_M (PLCC, 20-Leads, Body 8.965x8.965mm, Pitch 1.27mm, IPC Low Density)
pins: 1 VSS (power), 2 GND (power), 3 A1 (in), 4 A2 (in), 5 NC, 6 NC, 7 VDD (power), 8 NC, 9 S3, 10 OUT2, 11 S4, 12 S2, 13 OUT1, 14 S1

## AD7512DIJQ
designator U?
Dual (+/-15 V), DI CMOS Protected Analog Switches, 75 Ohm Ron, 14-pin DIP (Q-14), Tube; Manufacturer: Analog Devices; PartNumber: AD7512DIJQ; # Sw Functions: 2; Configuration: SPDT; DatasheetVersion: Rev. A; PackageVersion: Aug-05; PackageReference: Q-14; PackageDescription: 14-Pin Ceramic Dual In-Line Package, Row spacing 7.62 mm, Pitch 2.54 mm; Supplier 1: Mouser; Supplier Part Number 1: 584-AD7512DIJQ; Packing: Tube; Mounting Technology: Through Hole; ComponentLink1Description: Manufacturer URL; ComponentLink1URL: http://www.analog.com/en/index.html; ComponentLink2Description: Datasheet; ComponentLink2URL: http://www.analog.com/static/imported-files/data_sheets/AD7510DI_7511DI_7512DI.pdf; ComponentLink3Description: Package Specification; ComponentLink3URL: http://www.analog.com/static/imported-files/packages/393665681442905251546090Q_14.pdf
footprint ADI-Q-14 (DIP, 14-Leads, Body 19.94x6.73mm, Pitch 2.54mm)
pins: 1 VSS (power), 2 GND (power), 3 A1 (in), 4 A2 (in), 5 NC, 6 NC, 7 VDD (power), 8 NC, 9 S3, 10 OUT2, 11 S4, 12 S2, 13 OUT1, 14 S1

## AD7512DIKN
designator U?
Dual (+/-15 V), DI CMOS Protected Analog Switches, 75 Ohm Ron, 14-pin DIP (N-14), Tube; Manufacturer: Analog Devices; PartNumber: AD7512DIKN; # Sw Functions: 2; Configuration: SPDT; DatasheetVersion: Rev. A; PackageVersion: 070606-A, 07/2006; PackageReference: N-14; PackageDescription: 14-Pin Plastic Dual In-Line Package, Row spacing 7.62 mm, Pitch 2.54 mm; Supplier 1: Mouser; Supplier Part Number 1: 584-AD7512DIKN; Packing: Tube; Mounting Technology: Through Hole; Code_JEDEC: MS-001; ComponentLink1Description: Manufacturer URL; ComponentLink1URL: http://www.analog.com/en/index.html; ComponentLink2Description: Datasheet; ComponentLink2URL: http://www.analog.com/static/imported-files/data_sheets/AD7510DI_7511DI_7512DI.pdf; ComponentLink3Description: Package Specification; ComponentLink3URL: http://www.analog.com/static/imported-files/packages/N_14.pdf
footprint ADI-N-14 (DIP, 14-Leads, Body 19.18x6.605mm, Pitch 2.54mm)
pins: 1 VSS (power), 2 GND (power), 3 A1 (in), 4 A2 (in), 5 NC, 6 NC, 7 VDD (power), 8 NC, 9 S3, 10 OUT2, 11 S4, 12 S2, 13 OUT1, 14 S1

## AD7512DIKNZ
designator U?
Dual (+/-15 V), DI CMOS Protected Analog Switches, 75 Ohm Ron, 14-pin DIP (N-14), Tube; Manufacturer: Analog Devices; PartNumber: AD7512DIKNZ; # Sw Functions: 2; Configuration: SPDT; DatasheetVersion: Rev. A; PackageVersion: 070606-A, 07/2006; PackageReference: N-14; PackageDescription: 14-Pin Plastic Dual In-Line Package, Row spacing 7.62 mm, Pitch 2.54 mm; Supplier 1: Farnell; Supplier Part Number 1: 1438589; Supplier 2: Mouser; Supplier Part Number 2: 584-AD7512DIKNZ; Packing: Tube; Mounting Technology: Through Hole; Code_JEDEC: MS-001; ComponentLink1Description: Manufacturer URL; ComponentLink1URL: http://www.analog.com/en/index.html; ComponentLink2Description: Datasheet; ComponentLink2URL: http://www.analog.com/static/imported-files/data_sheets/AD7510DI_7511DI_7512DI.pdf; ComponentLink3Description: Package Specification; ComponentLink3URL: http://www.analog.com/static/imported-files/packages/N_14.pdf
footprint ADI-N-14 (DIP, 14-Leads, Body 19.18x6.605mm, Pitch 2.54mm)
pins: 1 VSS (power), 2 GND (power), 3 A1 (in), 4 A2 (in), 5 NC, 6 NC, 7 VDD (power), 8 NC, 9 S3, 10 OUT2, 11 S4, 12 S2, 13 OUT1, 14 S1

## AD7512DIKP
designator U?
Dual (+/-15 V), DI CMOS Protected Analog Switches, 75 Ohm Ron, 20-pin PLCC (P-20A), Tube; Manufacturer: Analog Devices; PartNumber: AD7512DIKP; # Sw Functions: 2; Configuration: SPDT; DatasheetVersion: Rev. A; PackageVersion: Nov-02; PackageReference: P-20A; PackageDescription: 20-Pin Plastic Leaded Chip Carrier, Body 8.97 x 8.97 mm, Pitch 1.27 mm; Supplier 1: Newark; Supplier Part Number 1: 66F5848; Supplier 2: Mouser; Supplier Part Number 2: 584-AD7512DIKP; Packing: Tube; Mounting Technology: Surface Mount; Code_JEDEC: MO-047AA; ComponentLink1Description: Manufacturer URL; ComponentLink1URL: http://www.analog.com/en/index.html; ComponentLink2Description: Datasheet; ComponentLink2URL: http://www.analog.com/static/imported-files/data_sheets/AD7510DI_7511DI_7512DI.pdf; ComponentLink3Description: Package Specification; ComponentLink3URL: http://www.analog.com/static/imported-files/packages/3121431516544404277643669223804694P20A.pdf
footprint ADI-P-20A_N (PLCC, 20-Leads, Body 8.965x8.965mm, Pitch 1.27mm, IPC Medium Density)
footprint ADI-P-20A_L (PLCC, 20-Leads, Body 8.965x8.965mm, Pitch 1.27mm, IPC High Density)
footprint ADI-P-20A_M (PLCC, 20-Leads, Body 8.965x8.965mm, Pitch 1.27mm, IPC Low Density)
part A pins: 2 VSS (power), 3 GND (power), 4 A1 (in), 6 A2 (in), 10 VDD (power), 13 S3, 14 OUT 2 (out), 16 S4, 18 S2, 19 OUT 1 (out), 20 S1
part B pins: 1 NC, 5 NC, 7 NC, 8 NC, 9 NC, 11 NC, 12 NC, 15 NC, 17 NC

## AD7512DIKPZ
designator U?
Dual (+/-15 V), DI CMOS Protected Analog Switches, 75 Ohm Ron, 20-pin PLCC (P-20A), Tube; Manufacturer: Analog Devices; PartNumber: AD7512DIKPZ; # Sw Functions: 2; Configuration: SPDT; DatasheetVersion: Rev. A; PackageVersion: Nov-02; PackageReference: P-20A; PackageDescription: 20-Pin Plastic Leaded Chip Carrier, Body 8.97 x 8.97 mm, Pitch 1.27 mm; Supplier 1: Newark; Supplier Part Number 1: 12M8828; Supplier 2: Mouser; Supplier Part Number 2: 584-AD7512DIKPZ; Packing: Tube; Mounting Technology: Surface Mount; Code_JEDEC: MO-047AA; ComponentLink1Description: Manufacturer URL; ComponentLink1URL: http://www.analog.com/en/index.html; ComponentLink2Description: Datasheet; ComponentLink2URL: http://www.analog.com/static/imported-files/data_sheets/AD7510DI_7511DI_7512DI.pdf; ComponentLink3Description: Package Specification; ComponentLink3URL: http://www.analog.com/static/imported-files/packages/3121431516544404277643669223804694P20A.pdf
footprint ADI-P-20A_N (PLCC, 20-Leads, Body 8.965x8.965mm, Pitch 1.27mm, IPC Medium Density)
footprint ADI-P-20A_L (PLCC, 20-Leads, Body 8.965x8.965mm, Pitch 1.27mm, IPC High Density)
footprint ADI-P-20A_M (PLCC, 20-Leads, Body 8.965x8.965mm, Pitch 1.27mm, IPC Low Density)
part A pins: 2 VSS (power), 3 GND (power), 4 A1 (in), 6 A2 (in), 10 VDD (power), 13 S3, 14 OUT 2 (out), 16 S4, 18 S2, 19 OUT 1 (out), 20 S1
part B pins: 1 NC, 5 NC, 7 NC, 8 NC, 9 NC, 11 NC, 12 NC, 15 NC, 17 NC

## AD7512DIKPZ-REEL
designator U?
Dual (+/-15 V), DI CMOS Protected Analog Switches, 75 Ohm Ron, 20-pin PLCC (P-20A), Reel; Manufacturer: Analog Devices; PartNumber: AD7512DIKPZ-REEL; # Sw Functions: 2; Configuration: SPDT; DatasheetVersion: Rev. A; PackageVersion: Nov-02; PackageReference: P-20A; PackageDescription: 20-Pin Plastic Leaded Chip Carrier, Body 8.97 x 8.97 mm, Pitch 1.27 mm; Supplier 1: Newark; Supplier Part Number 1: 74R5976; Supplier 2: Mouser; Supplier Part Number 2: 584-AD7512DIKPZ-R; Packing: Reel; Mounting Technology: Surface Mount; Code_JEDEC: MO-047AA; ComponentLink1Description: Manufacturer URL; ComponentLink1URL: http://www.analog.com/en/index.html; ComponentLink2Description: Datasheet; ComponentLink2URL: http://www.analog.com/static/imported-files/data_sheets/AD7510DI_7511DI_7512DI.pdf; ComponentLink3Description: Package Specification; ComponentLink3URL: http://www.analog.com/static/imported-files/packages/3121431516544404277643669223804694P20A.pdf
footprint ADI-P-20A_N (PLCC, 20-Leads, Body 8.965x8.965mm, Pitch 1.27mm, IPC Medium Density)
footprint ADI-P-20A_L (PLCC, 20-Leads, Body 8.965x8.965mm, Pitch 1.27mm, IPC High Density)
footprint ADI-P-20A_M (PLCC, 20-Leads, Body 8.965x8.965mm, Pitch 1.27mm, IPC Low Density)
part A pins: 2 VSS (power), 3 GND (power), 4 A1 (in), 6 A2 (in), 10 VDD (power), 13 S3, 14 OUT 2 (out), 16 S4, 18 S2, 19 OUT 1 (out), 20 S1
part B pins: 1 NC, 5 NC, 7 NC, 8 NC, 9 NC, 11 NC, 12 NC, 15 NC, 17 NC

## AD7512DIKQ
designator U?
Dual (+/-15 V), DI CMOS Protected Analog Switches, 75 Ohm Ron, 14-pin DIP (Q-14), Tube; Manufacturer: Analog Devices; PartNumber: AD7512DIKQ; # Sw Functions: 2; Configuration: SPDT; DatasheetVersion: Rev. A; PackageVersion: Aug-05; PackageReference: Q-14; PackageDescription: 14-Pin Ceramic Dual In-Line Package, Row spacing 7.62 mm, Pitch 2.54 mm; Supplier 1: Newark; Supplier Part Number 1: 05F7373; Supplier 2: Mouser; Supplier Part Number 2: 584-AD7512DIKQ; Packing: Tube; Mounting Technology: Through Hole; ComponentLink1Description: Manufacturer URL; ComponentLink1URL: http://www.analog.com/en/index.html; ComponentLink2Description: Datasheet; ComponentLink2URL: http://www.analog.com/static/imported-files/data_sheets/AD7510DI_7511DI_7512DI.pdf; ComponentLink3Description: Package Specification; ComponentLink3URL: http://www.analog.com/static/imported-files/packages/393665681442905251546090Q_14.pdf
footprint ADI-Q-14 (DIP, 14-Leads, Body 19.94x6.73mm, Pitch 2.54mm)
pins: 1 VSS (power), 2 GND (power), 3 A1 (in), 4 A2 (in), 5 NC, 6 NC, 7 VDD (power), 8 NC, 9 S3, 10 OUT2, 11 S4, 12 S2, 13 OUT1, 14 S1

## AD7512DISE
designator U?
Dual (+/-15 V), DI CMOS Protected Analog Switches, 75 Ohm Ron, 20-pin LCC (E-20A), Tube; Manufacturer: Analog Devices; PartNumber: AD7512DISE; # Sw Functions: 2; Configuration: SPDT; DatasheetVersion: Rev. A; PackageVersion: Rev. C, 08/2002; PackageReference: E-20A; PackageDescription: 20-Pin Terminal Ceramic Leadless Chip Carrier, Body 8.89 x 8.89 mm, Pitch 1.27 mm; Supplier 1: Mouser; Supplier Part Number 1: N/A; Packing: Tube; Mounting Technology: Surface Mount; ComponentLink1Description: Manufacturer URL; ComponentLink1URL: http://www.analog.com/en/index.html; ComponentLink2Description: Datasheet; ComponentLink2URL: http://www.analog.com/static/imported-files/data_sheets/AD7510DI_7511DI_7512DI.pdf; ComponentLink3Description: Package Specification; ComponentLink3URL: http://www.analog.com/static/imported-files/data_sheets/AD827.pdf
footprint ADI-E-20A_N (LCC, 20-Leads, Body 8.9x8.9mm, Pitch 1.27mm, IPC Medium Density)
footprint ADI-E-20A_L (LCC, 20-Leads, Body 8.9x8.9mm, Pitch 1.27mm, IPC High Density)
footprint ADI-E-20A_M (LCC, 20-Leads, Body 8.9x8.9mm, Pitch 1.27mm, IPC Low Density)
pins: 1 VSS (power), 2 GND (power), 3 A1 (in), 4 A2 (in), 5 NC, 6 NC, 7 VDD (power), 8 NC, 9 S3, 10 OUT2, 11 S4, 12 S2, 13 OUT1, 14 S1

## AD7512DISQ/883B
designator U?
Dual (+/-15 V), DI CMOS Protected Analog Switches, 75 Ohm Ron, 14-pin DIP (Q-14), Tube; Manufacturer: Analog Devices; PartNumber: AD7512DISQ/883B; # Sw Functions: 2; Configuration: SPDT; DatasheetVersion: Rev. A; PackageVersion: Aug-05; PackageReference: Q-14; PackageDescription: 14-Pin Ceramic Dual In-Line Package, Row spacing 7.62 mm, Pitch 2.54 mm; Supplier 1: Mouser; Supplier Part Number 1: 584-AD7512DISQ883B; Packing: Tube; Mounting Technology: Through Hole; ComponentLink1Description: Manufacturer URL; ComponentLink1URL: http://www.analog.com/en/index.html; ComponentLink2Description: Datasheet; ComponentLink2URL: http://www.analog.com/static/imported-files/data_sheets/AD7510DI_7511DI_7512DI.pdf; ComponentLink3Description: Package Specification; ComponentLink3URL: http://www.analog.com/static/imported-files/packages/393665681442905251546090Q_14.pdf
footprint ADI-Q-14 (DIP, 14-Leads, Body 19.94x6.73mm, Pitch 2.54mm)
pins: 1 VSS (power), 2 GND (power), 3 A1 (in), 4 A2 (in), 5 NC, 6 NC, 7 VDD (power), 8 NC, 9 S3, 10 OUT2, 11 S4, 12 S2, 13 OUT1, 14 S1

## AD7512DITE
designator U?
Dual (+/-15 V), DI CMOS Protected Analog Switches, 75 Ohm Ron, 20-pin LCC (E-20A), Tube; Manufacturer: Analog Devices; PartNumber: AD7512DITE; # Sw Functions: 2; Configuration: SPDT; DatasheetVersion: Rev. A; PackageVersion: Rev. C, 08/2002; PackageReference: E-20A; PackageDescription: 20-Pin Terminal Ceramic Leadless Chip Carrier, Body 8.89 x 8.89 mm, Pitch 1.27 mm; Supplier 1: Mouser; Supplier Part Number 1: N/A; Packing: Tube; Mounting Technology: Surface Mount; ComponentLink1Description: Manufacturer URL; ComponentLink1URL: http://www.analog.com/en/index.html; ComponentLink2Description: Datasheet; ComponentLink2URL: http://www.analog.com/static/imported-files/data_sheets/AD7510DI_7511DI_7512DI.pdf; ComponentLink3Description: Package Specification; ComponentLink3URL: http://www.analog.com/static/imported-files/data_sheets/AD827.pdf
footprint ADI-E-20A_N (LCC, 20-Leads, Body 8.9x8.9mm, Pitch 1.27mm, IPC Medium Density)
footprint ADI-E-20A_L (LCC, 20-Leads, Body 8.9x8.9mm, Pitch 1.27mm, IPC High Density)
footprint ADI-E-20A_M (LCC, 20-Leads, Body 8.9x8.9mm, Pitch 1.27mm, IPC Low Density)
pins: 1 VSS (power), 2 GND (power), 3 A1 (in), 4 A2 (in), 5 NC, 6 NC, 7 VDD (power), 8 NC, 9 S3, 10 OUT2, 11 S4, 12 S2, 13 OUT1, 14 S1

## AD7512DITE/883B
designator U?
Dual (+/-15 V), DI CMOS Protected Analog Switches, 75 Ohm Ron, 20-pin LCC (E-20A), Tube; Manufacturer: Analog Devices; PartNumber: AD7512DITE/883B; # Sw Functions: 2; Configuration: SPDT; DatasheetVersion: Rev. A; PackageVersion: Rev. C, 08/2002; PackageReference: E-20A; PackageDescription: 20-Pin Terminal Ceramic Leadless Chip Carrier, Body 8.89 x 8.89 mm, Pitch 1.27 mm; Supplier 1: Mouser; Supplier Part Number 1: 584-AD7512DITE883B; Packing: Tube; Mounting Technology: Surface Mount; ComponentLink1Description: Manufacturer URL; ComponentLink1URL: http://www.analog.com/en/index.html; ComponentLink2Description: Datasheet; ComponentLink2URL: http://www.analog.com/static/imported-files/data_sheets/AD7510DI_7511DI_7512DI.pdf; ComponentLink3Description: Package Specification; ComponentLink3URL: http://www.analog.com/static/imported-files/data_sheets/AD827.pdf
footprint ADI-E-20A_N (LCC, 20-Leads, Body 8.9x8.9mm, Pitch 1.27mm, IPC Medium Density)
footprint ADI-E-20A_L (LCC, 20-Leads, Body 8.9x8.9mm, Pitch 1.27mm, IPC High Density)
footprint ADI-E-20A_M (LCC, 20-Leads, Body 8.9x8.9mm, Pitch 1.27mm, IPC Low Density)
pins: 1 VSS (power), 2 GND (power), 3 A1 (in), 4 A2 (in), 5 NC, 6 NC, 7 VDD (power), 8 NC, 9 S3, 10 OUT2, 11 S4, 12 S2, 13 OUT1, 14 S1

## AD7512DITQ
designator U?
Dual (+/-15 V), DI CMOS Protected Analog Switches, 75 Ohm Ron, 14-pin DIP (Q-14), Tube; Manufacturer: Analog Devices; PartNumber: AD7512DITQ; # Sw Functions: 2; Configuration: SPDT; DatasheetVersion: Rev. A; PackageVersion: Aug-05; PackageReference: Q-14; PackageDescription: 14-Pin Ceramic Dual In-Line Package, Row spacing 7.62 mm, Pitch 2.54 mm; Supplier 1: Newark; Supplier Part Number 1: 66F5850; Supplier 2: Mouser; Supplier Part Number 2: 584-AD7512DITQ; Packing: Tube; Mounting Technology: Through Hole; ComponentLink1Description: Manufacturer URL; ComponentLink1URL: http://www.analog.com/en/index.html; ComponentLink2Description: Datasheet; ComponentLink2URL: http://www.analog.com/static/imported-files/data_sheets/AD7510DI_7511DI_7512DI.pdf; ComponentLink3Description: Package Specification; ComponentLink3URL: http://www.analog.com/static/imported-files/packages/393665681442905251546090Q_14.pdf
footprint ADI-Q-14 (DIP, 14-Leads, Body 19.94x6.73mm, Pitch 2.54mm)
pins: 1 VSS (power), 2 GND (power), 3 A1 (in), 4 A2 (in), 5 NC, 6 NC, 7 VDD (power), 8 NC, 9 S3, 10 OUT2, 11 S4, 12 S2, 13 OUT1, 14 S1

## AD7512DITQ/883B
designator U?
Dual (+/-15 V), DI CMOS Protected Analog Switches, 75 Ohm Ron, 14-pin DIP (Q-14), Tube; Manufacturer: Analog Devices; PartNumber: AD7512DITQ/883B; # Sw Functions: 2; Configuration: SPDT; DatasheetVersion: Rev. A; PackageVersion: Aug-05; PackageReference: Q-14; PackageDescription: 14-Pin Ceramic Dual In-Line Package, Row spacing 7.62 mm, Pitch 2.54 mm; Supplier 1: Newark; Supplier Part Number 1: 29M7494; Supplier 2: Mouser; Supplier Part Number 2: 584-AD7512DITQ883B; Packing: Tube; Mounting Technology: Through Hole; ComponentLink1Description: Manufacturer URL; ComponentLink1URL: http://www.analog.com/en/index.html; ComponentLink2Description: Datasheet; ComponentLink2URL: http://www.analog.com/static/imported-files/data_sheets/AD7510DI_7511DI_7512DI.pdf; ComponentLink3Description: Package Specification; ComponentLink3URL: http://www.analog.com/static/imported-files/packages/393665681442905251546090Q_14.pdf
footprint ADI-Q-14 (DIP, 14-Leads, Body 19.94x6.73mm, Pitch 2.54mm)
pins: 1 VSS (power), 2 GND (power), 3 A1 (in), 4 A2 (in), 5 NC, 6 NC, 7 VDD (power), 8 NC, 9 S3, 10 OUT2, 11 S4, 12 S2, 13 OUT1, 14 S1

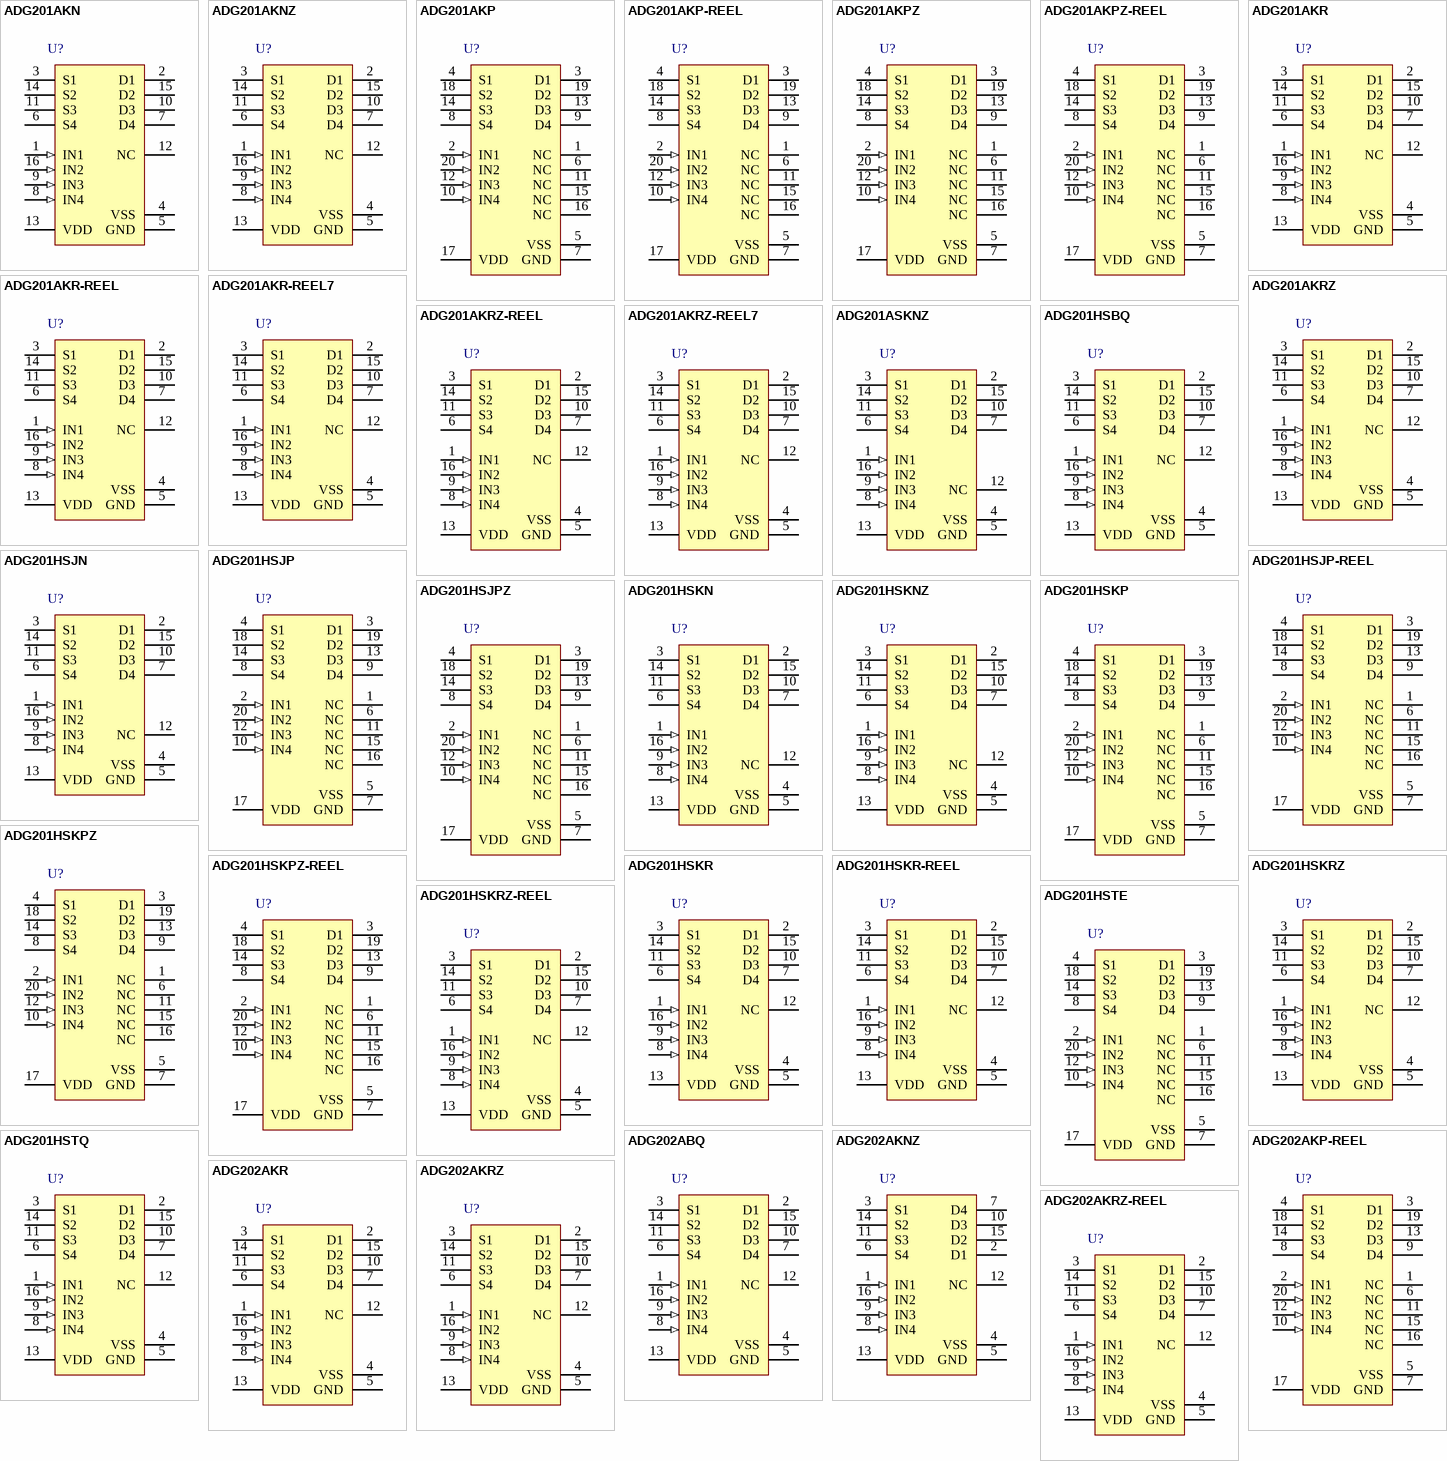
[diagram p1: symbols ADG201AKN to ADG202AKRZ-REEL]

## ADG201AKN
designator U?
LC2MOS Quad SPST Switches, 60 Ohm Ron, 16-pin DIP (N-16), Tube; Manufacturer: Analog Devices; PartNumber: ADG201AKN; # Sw Functions: 4; Max Neg Supply: -15V; Max Pos Supply: +15V; Ron (ohms): 60; DatasheetVersion: Rev. A; PackageVersion: 070706-A, 07/2006; PackageReference: N-16; PackageDescription: 16-Pin Plastic Dual In-Line Package, Row spacing 7.62 mm, Pitch 2.54 mm; Supplier 1: Digi-Key; Supplier Part Number 1: ADG201AKN-ND; Supplier 2: Mouser; Supplier Part Number 2: 584-ADG201AKN; Configuration: SPST; Packing: Tube; Mounting Technology: Through Hole; Code_JEDEC: MS-001; ComponentLink1Description: Manufacturer URL; ComponentLink1URL: http://www.analog.com/en/index.html; ComponentLink2Description: Datasheet; ComponentLink2URL: http://www.analog.com/static/imported-files/data_sheets/ADG201A_202A.pdf; ComponentLink3Description: Package Specification; ComponentLink3URL: http://www.analog.com/static/imported-files/packages/44768431550332N_16.pdf
footprint ADI-N-16 (DIP, 16-Leads, Body 20.07x6.6mm, Pitch 2.54mm)
pins: 1 IN1 (in), 2 D1, 3 S1, 4 VSS (power) "Most Negative Power Supply in a Dual-Supply Application. In single-supply applications, connect to GND.", 5 GND (power), 6 S4, 7 D4, 8 IN4 (in), 9 IN3 (in), 10 D3, 11 S3, 12 NC, 13 VDD (power) "Most Positive Power Supply Potential", 14 S2, 15 D2, 16 IN2 (in)

## ADG201AKNZ
designator U?
LC2MOS Quad SPST Switches, 60 Ohm Ron, 16-pin DIP (N-16), Tube; Manufacturer: Analog Devices; PartNumber: ADG201AKNZ; # Sw Functions: 4; Max Neg Supply: -15V; Max Pos Supply: +15V; Ron (ohms): 60; DatasheetVersion: Rev. A; PackageVersion: 070706-A, 07/2006; PackageReference: N-16; PackageDescription: 16-Pin Plastic Dual In-Line Package, Row spacing 7.62 mm, Pitch 2.54 mm; Supplier 1: Digi-Key; Supplier Part Number 1: ADG201AKNZ-ND; Supplier 2: Farnell; Supplier Part Number 2: 9605010; Supplier 3: Newark; Supplier Part Number 3: 59K1167; Supplier 4: Mouser; Supplier Part Number 4: 584-ADG201AKNZ; Configuration: SPST; Packing: Tube; Mounting Technology: Through Hole; Code_JEDEC: MS-001; ComponentLink1Description: Manufacturer URL; ComponentLink1URL: http://www.analog.com/en/index.html; ComponentLink2Description: Datasheet; ComponentLink2URL: http://www.analog.com/static/imported-files/data_sheets/ADG201A_202A.pdf; ComponentLink3Description: Package Specification; ComponentLink3URL: http://www.analog.com/static/imported-files/packages/44768431550332N_16.pdf
footprint ADI-N-16 (DIP, 16-Leads, Body 20.07x6.6mm, Pitch 2.54mm)
pins: 1 IN1 (in), 2 D1, 3 S1, 4 VSS (power) "Most Negative Power Supply in a Dual-Supply Application. In single-supply applications, connect to GND.", 5 GND (power), 6 S4, 7 D4, 8 IN4 (in), 9 IN3 (in), 10 D3, 11 S3, 12 NC, 13 VDD (power) "Most Positive Power Supply Potential", 14 S2, 15 D2, 16 IN2 (in)

## ADG201AKP
designator U?
LC2MOS Quad SPST Switches, 60 Ohm Ron, 20-pin LCC (P-20A), Tube; Manufacturer: Analog Devices; PartNumber: ADG201AKP; # Sw Functions: 4; Max Neg Supply: -15V; Max Pos Supply: +15V; Ron (ohms): 60; DatasheetVersion: Rev. A; PackageVersion: Nov-02; PackageReference: P-20A; PackageDescription: 20-Pin Plastic Leaded Chip Carrier, Body 8.97 x 8.97 mm, Pitch 1.27 mm; Supplier 1: Digi-Key; Supplier Part Number 1: ADG201AKP-ND; Supplier 2: Mouser; Supplier Part Number 2: 584-ADG201AKP; Configuration: SPST; Packing: Tube; Mounting Technology: Surface Mount; Code_JEDEC: MO-047AA; ComponentLink1Description: Manufacturer URL; ComponentLink1URL: http://www.analog.com/en/index.html; ComponentLink2Description: Datasheet; ComponentLink2URL: http://www.analog.com/static/imported-files/data_sheets/ADG201A_202A.pdf; ComponentLink3Description: Package Specification; ComponentLink3URL: http://www.analog.com/static/imported-files/packages/3121431516544404277643669223804694P20A.pdf
footprint ADI-P-20A_N (PLCC, 20-Leads, Body 8.965x8.965mm, Pitch 1.27mm, IPC Medium Density)
footprint ADI-P-20A_L (PLCC, 20-Leads, Body 8.965x8.965mm, Pitch 1.27mm, IPC High Density)
footprint ADI-P-20A_M (PLCC, 20-Leads, Body 8.965x8.965mm, Pitch 1.27mm, IPC Low Density)
pins: 1 NC, 2 IN1 (in), 3 D1, 4 S1, 5 VSS (power) "Most negative voltage supply", 6 NC, 7 GND (power), 8 S4, 9 D4, 10 IN4 (in), 11 NC, 12 IN3 (in), 13 D3, 14 S3, 15 NC, 16 NC, 17 VDD (power) "Most positive voltage supply", 18 S2, 19 D2, 20 IN2 (in)